# Altium footprint library PCB.PcbLib: 41 footprints (part 2 of 3)
Each footprint in its own frame and in the unit in brackets; x right, y up, seen from the top. Pads: shape width x height; smd on the part's side, far side on the other; paste and mask are expansions set on the pad; w line width, h text height; cw(c..) or ccw(c..) is an arc to the next point about the centre after c.
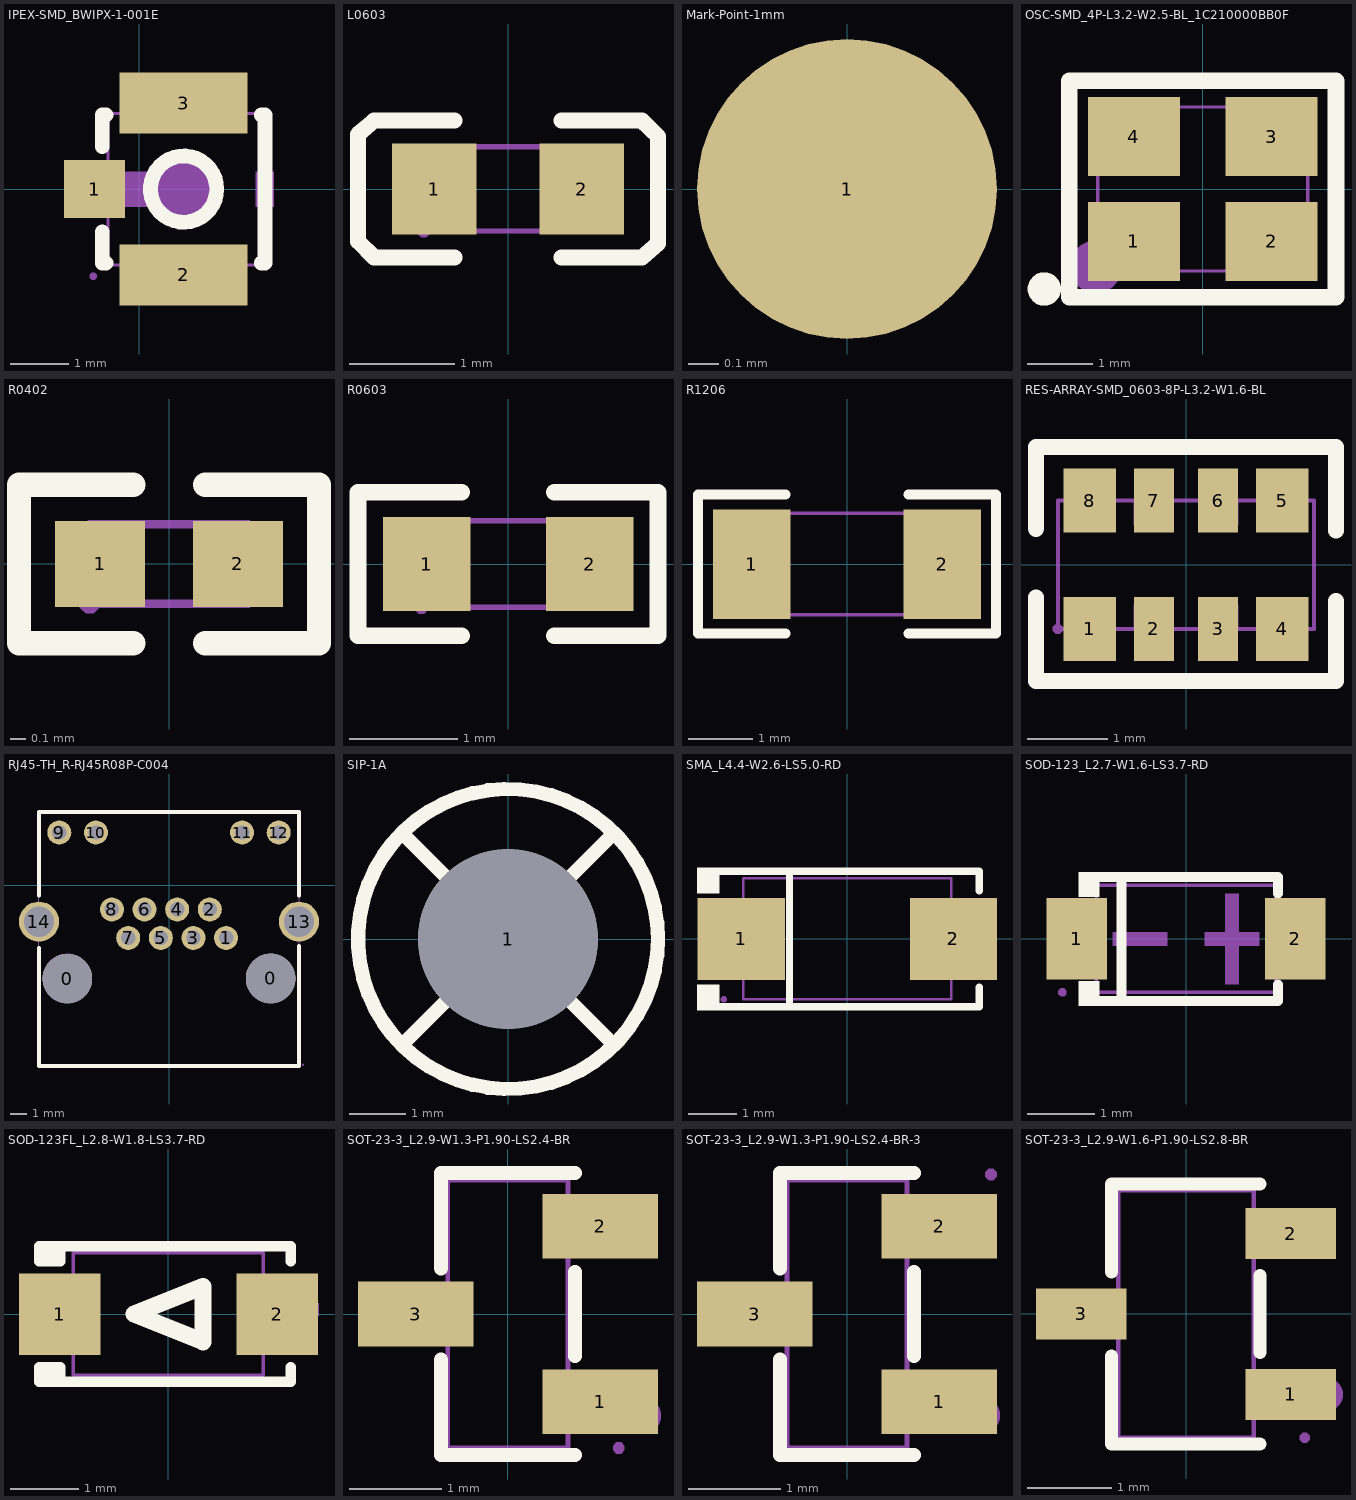
[diagram p1: the footprints below, top view; thin cyan lines are the x and y axes]

## IPEX-SMD_BWIPX-1-001E [mil]
pads (3):
  rect 41.3x39.4 smd: 1(-30.1,0)
  rect 86.6x41.3 smd: 2(30,-58) 3(30,58.1)
Top Overlay:
  circle w10: c30,0 r22.4
  lines w10: -25,-28.8 -25,-50 -22.4,-50 ; -25,28.8 -25,50 -22.4,50 ; 82.4,-50 85,-50 85,-28.8 85,28.8 85,50 82.4,50
Mechanical 6:
  circle w7.9: c-40,0 r3.9
  region: 50.9,0 50.9,-3.98 47.86,-11.33 42.23,-16.96 34.88,-20 30.9,-20 30.92,-20 28.61,-19.95 24.13,-18.81 20.03,-16.68 16.52,-13.68 15.16,-11.81 15.1,-11.8 -17.8,-11.8 -17.8,11.8 15.16,11.81 16.52,13.68 20.03,16.68 24.13,18.81 28.61,19.95 30.92,20 30.9,20 34.88,20 42.23,16.96 47.86,11.33 50.9,3.98 50.9,0
Mechanical 7:
  lines w2: -21.2,-51.2 81.2,-51.2 81.2,51.2 -21.2,51.2 -21.2,-51.2
Mechanical 8:
  region: -28.7,-59 -28.7,-59.99 -30.11,-61.4 -32.09,-61.4 -33.5,-59.99 -33.5,-59 -33.5,-58.01 -32.09,-56.6 -30.11,-56.6 -28.7,-58.01 -28.7,-59
Mechanical 9:
  region: 65.4,43.3 -5.5,43.3 -5.5,59.1 65.4,59.1
  region: 65.4,-59 -5.5,-59 -5.5,-43.3 65.4,-43.3
  region: -17.3,11.8 -17.3,-11.8 -31.1,-11.8 -31.1,11.8
Mechanical 10:
  region: 78.7,11.8 91,11.8 91,-11.8 78.7,-11.8
  region: 50.9,0 50.9,-3.98 47.86,-11.33 42.23,-16.96 34.88,-20 30.9,-20 30.92,-20 28.61,-19.95 24.13,-18.81 20.03,-16.68 16.52,-13.68 15.16,-11.81 15.1,-11.8 -17.8,-11.8 -17.8,11.8 15.16,11.81 16.52,13.68 20.03,16.68 24.13,18.81 28.61,19.95 30.92,20 30.9,20 34.88,20 42.23,16.96 47.86,11.33 50.9,3.98 50.9,0

## L0603 [mil]
pads (2):
  rect 31.5x34 smd paste-3937 mask+2: 1(-27.6,0) 2(27.5,0)
Top Overlay:
  lines w6: -50.1,-25.6 -20.1,-25.6 ; -50.1,25.6 -20.1,25.6 ; -50,-25.6 -56.1,-19.6 -56.1,20.4 -50,25.6 ; 20,-25.6 50,-25.6 56,-20.4 56,19.7 50,25.6 20,25.6
Top Paste:
  region: -10,5.6 -10,-5.2 -20.7,-16.8 -40.6,-16.8 -43.1,-14.3 -43.1,14.7 -40.6,17.2 -20.7,17.2
  region: 10.3,6.1 10.3,-4.8 21.1,-16.4 41,-16.4 43.5,-13.8 43.5,15.1 41,17.7 21.1,17.7
Mechanical 7:
  lines w2: -31.5,-15.7 31.4,-15.7 31.4,15.8 -31.5,15.8 -31.5,-15.7
Mechanical 8:
  region: -29.1,-15.7 -29.1,-16.69 -30.51,-18.1 -32.49,-18.1 -33.9,-16.69 -33.9,-15.7 -33.9,-14.71 -32.49,-13.3 -30.51,-13.3 -29.1,-14.71 -29.1,-15.7 -29.2,-15.7
Mechanical 9:
  region: 31.4,-15.7 19.6,-15.7 19.6,15.8 31.4,15.8
  region: -19.7,-15.7 -31.5,-15.7 -31.5,15.8 -19.7,15.8

## Mark-Point-1mm [mil]
pads (1):
  round 39.4 smd paste-1000 mask+19.7: 1(0,0)

## OSC-SMD_4P-L3.2-W2.5-BL_1C210000BB0F [mil]
pads (4):
  rect 55.1x47.2 smd paste+0 mask+2: 1(-41.3,-31.5) 2(41.3,-31.5) 3(41.3,31.5) 4(-41.3,31.5)
Top Overlay:
  circle w10: c-95,-60 r5
  lines w10: -80,-65 80,-65 80,65 -80,65 -80,-65
Mechanical 6:
  circle w15.7: c-64.1,-46.7 r7.9
Mechanical 7:
  lines w2: -63,-49.2 -63,49.2 63,49.2 63,-49.2 -63,-49.2
Mechanical 8:
  region: -60.6,-49.2 -60.6,-50.19 -62.01,-51.6 -63.99,-51.6 -65.4,-50.19 -65.4,-49.2 -65.4,-48.21 -63.99,-46.8 -62.01,-46.8 -60.6,-48.21 -60.6,-49.2
Mechanical 9:
  region: 23.6,45.2 59.1,45.2 59.1,17.7 23.6,17.7
  region: 23.6,-17.8 59.1,-17.8 59.1,-45.3 23.6,-45.3
  region: -59.1,-17.8 -23.6,-17.8 -23.6,-45.3 -59.1,-45.3
  region: -59.1,45.2 -23.6,45.2 -23.6,17.7 -59.1,17.7

## R0402 [mil]
pads (2):
  rect 22.3x21.3 smd paste-3937 mask+2: 1(-17.1,0) 2(17,0)
Top Overlay:
  lines w6: -8.9,-19.7 -37.2,-19.7 -37.2,19.6 -8.9,19.6 ; 8.9,-19.7 37.1,-19.7 37.1,19.6 8.9,19.6
Top Paste:
  region: -5.4,-9.1 -5.4,9 -6.9,10.6 -26.6,10.6 -28.2,9 -28.2,-9.1 -26.6,-10.7 -6.9,-10.7
  region: 5.3,-9.1 5.3,9 6.9,10.6 26.6,10.6 28.1,9 28.1,-9.1 26.6,-10.7 6.9,-10.7
Mechanical 7:
  lines w2: -19.7,-9.9 19.6,-9.9 19.6,9.8 -19.7,9.8 -19.7,-9.9
Mechanical 8:
  region: -17.3,-9.9 -17.3,-10.89 -18.71,-12.3 -20.69,-12.3 -22.1,-10.89 -22.1,-9.9 -22.1,-8.91 -20.69,-7.5 -18.71,-7.5 -17.3,-8.91 -17.3,-9.9 -17.4,-9.9
Mechanical 9:
  region: -9.8,9.8 -9.8,-9.9 -19.7,-9.9 -19.7,9.8
  region: 9.9,-9.9 9.9,9.8 19.7,9.8 19.7,-9.9

## R0603 [mil]
pads (2):
  rect 31.8x34 smd paste-3937 mask+2: 1(-29.6,0) 2(29.7,0)
Top Overlay:
  lines w6: -16.8,-26 -54.5,-26 -54.5,26 -16.8,26 ; 16.8,-26 54.5,-26 54.5,26 16.8,26
Top Paste:
  region: -47,-17.7 -15.5,-17.7 -13.6,-15.7 -13.6,-6.8 -28.1,-6.8 -28.1,6.2 -13.6,6.2 -13.6,15.8 -15.5,17.7 -47,17.7 -49,15.8 -49,-15.7
  region: 47.1,17.7 15.6,17.7 13.6,15.8 13.6,6.8 28.2,6.8 28.2,-6.2 13.6,-6.2 13.6,-15.7 15.6,-17.7 47.1,-17.7 49,-15.7 49,15.8
Mechanical 7:
  lines w2: -31.5,-15.7 31.5,-15.7 31.5,15.8 -31.5,15.8 -31.5,-15.7
Mechanical 8:
  region: -29.1,-15.7 -29.1,-16.69 -30.51,-18.1 -32.49,-18.1 -33.9,-16.69 -33.9,-15.7 -33.9,-14.71 -32.49,-13.3 -30.51,-13.3 -29.1,-14.71 -29.1,-15.7
Mechanical 9:
  region: 31.5,-15.7 31.5,15.8 19.7,15.8 19.7,-15.7
  region: -31.5,-15.7 -31.5,15.8 -19.7,15.8 -19.7,-15.7

## R1206 [mil]
pads (2):
  rect 47.5x67 smd paste-3937 mask+2: 1(-58.2,0) 2(58.2,0)
Top Overlay:
  lines w6: -37.5,-42.4 -91,-42.4 -91,42.5 -37.5,42.5 ; 37.4,-42.4 91,-42.4 91,42.5 37.4,42.5
Top Paste:
  region: -34.5,-29.5 -34.5,-15.3 -38.4,-11.3 -46.7,-11.3 -50.6,-7.4 -50.6,7.5 -46.7,11.4 -38.4,11.4 -34.5,15.4 -34.5,29.6 -38.4,33.5 -78.1,33.5 -82,29.6 -82,-29.5 -78.1,-33.4 -38.4,-33.4
  region: 34.4,-29.5 34.4,-15.3 38.4,-11.3 46.7,-11.3 50.6,-7.4 50.6,7.5 46.7,11.4 38.4,11.4 34.4,15.4 34.4,29.6 38.4,33.5 78,33.5 82,29.6 82,-29.5 78,-33.4 38.4,-33.4
Mechanical 7:
  lines w2: -61,-31 61,-31 61,31.1 -61,31.1 -61,-31
Mechanical 8:
  region: -58.6,-31 -58.6,-31.99 -60.01,-33.4 -61.99,-33.4 -63.4,-31.99 -63.4,-31 -63.4,-30.01 -61.99,-28.6 -60.01,-28.6 -58.6,-30.01 -58.6,-31 -58.7,-31
Mechanical 9:
  region: 61,-31 61,31.1 43.3,31.1 43.3,-31
  region: -61,-31 -61,31.1 -43.3,31.1 -43.3,-31

## RES-ARRAY-SMD_0603-8P-L3.2-W1.6-BL [mil]
pads (8):
  rect 25.6x31.5 smd paste+0 mask+2: 1(-47.3,-31.5) 4(47.2,-31.5) 5(47.2,31.5) 8(-47.3,31.5)
  rect 19.7x31.5 smd paste+0 mask+2: 2(-15.8,-31.5) 3(15.7,-31.5) 6(15.7,31.5) 7(-15.8,31.5)
Top Overlay:
  lines w7.9: -73.7,-16.1 -73.7,-57.1 73.6,-57.1 73.6,-17.7 ; -73.7,17.7 -73.7,57.9 73.6,57.9 73.6,16.9
Mechanical 7:
  lines w2: -63,-31.5 62.9,-31.5 62.9,31.5 -63,31.5 -63,-31.5
Mechanical 8:
  region: -60.6,-31.5 -60.6,-32.49 -62.01,-33.9 -63.99,-33.9 -65.4,-32.49 -65.4,-31.5 -65.4,-30.51 -63.99,-29.1 -62.01,-29.1 -60.6,-30.51 -60.6,-31.5 -60.7,-31.5
Mechanical 9:
  region: 37.3,19.7 37.3,31.5 57,31.5 57,19.7
  region: -25.6,19.7 -25.6,31.5 -6,31.5 -6,19.7
  region: 37.4,-31.5 37.4,-19.7 57,-19.7 57,-31.5
  region: 5.9,19.7 5.9,31.5 25.5,31.5 25.5,19.7
  region: 5.9,-31.5 5.9,-19.7 25.5,-19.7 25.5,-31.5
  region: -25.6,-31.5 -25.6,-19.7 -6,-19.7 -6,-31.5
  region: -57.1,19.7 -57.1,31.5 -37.4,31.5 -37.4,19.7
  region: -57.1,-31.5 -57.1,-19.7 -37.4,-19.7 -37.4,-31.5

## RJ45-TH_R-RJ45R08P-C004 [mil]
pads (16):
  round 122 hole 122 unplated paste-99999 mask+0: 0(-250,-230) 0(250,-229.69)
  round 59.1 hole 35.4 paste-99999 mask+2: 1(140.5,-129.7) 2(100.4,-59.6) 3(60.2,-129.7) 4(20.1,-59.6) 5(-20.1,-129.7) 6(-60.3,-59.6) 7(-100.4,-129.7) 8(-140.6,-59.6) 9(-270.1,129.7) 10(-179.9,129.7) 11(179.9,129.7) 12(270.1,129.7)
  round 98.4 hole 74.8 paste-99999 mask+2: 13(320.1,-89.6) 14(-320.1,-89.6)
Top Overlay:
  lines w10: -320.1,-25 -320.1,180 320.1,180 320.1,-25 ; -320,-155 -320,-445 320,-445 320,-150
Mechanical 6:
  circle w61: c250,-229.7 r30.5
  circle w61: c-250,-229.7 r30.5
Mechanical 7:
  lines w2: -320.1,-442.3 -320.1,177.8 320.1,177.8 320.1,-442.3 -320.1,-442.3
Mechanical 8:
  region: 332.3,-442.3 332.3,-443.29 330.89,-444.7 328.91,-444.7 327.5,-443.29 327.5,-442.3 327.5,-441.31 328.91,-439.9 330.89,-439.9 332.3,-441.31 332.3,-442.3
Mechanical 9:
  region: 127.9,-117.1 153.1,-117.1 153.1,-142.3 127.9,-142.3
  region: 87.8,-47 113,-47 113,-72.2 87.8,-72.2
  region: 47.6,-117.1 72.8,-117.1 72.8,-142.3 47.6,-142.3
  region: 7.5,-47 32.7,-47 32.7,-72.2 7.5,-72.2
  region: -32.7,-117.1 -7.5,-117.1 -7.5,-142.3 -32.7,-142.3
  region: -72.9,-47 -47.7,-47 -47.7,-72.2 -72.9,-72.2
  region: -113,-117.1 -87.8,-117.1 -87.8,-142.3 -113,-142.3
  region: -153.2,-47 -128,-47 -128,-72.2 -153.2,-72.2
  region: -282.7,142.3 -257.5,142.3 -257.5,117.1 -282.7,117.1
  region: -192.5,142.3 -167.3,142.3 -167.3,117.1 -192.5,117.1
  region: 167.3,142.3 192.5,142.3 192.5,117.1 167.3,117.1
  region: 257.5,142.3 282.7,142.3 282.7,117.1 257.5,117.1
  region: 310.2,-60 329.9,-60 329.9,-119.1 310.2,-119.1
  region: -329.9,-60 -310.3,-60 -310.3,-119.1 -329.9,-119.1

## SIP-1A [mil]
pads (1):
  round 126 hole 126 paste-99999 mask+4: 1(0,0)
Top Overlay:
  circle w10: c0,0 r105
  lines w10: -72.5,-72.5 72.5,72.5 ; -72.5,72.5 72.5,-72.5

## SMA_L4.4-W2.6-LS5.0-RD [mil]
pads (2):
  rect 70.9x66.9 smd: 1(-86.3,0) 2(86.3,0)
Top Overlay:
  region: -104.3,-58.2 -104.3,-37.4 -122.3,-37.4 -122.3,-58.2
  region: -104.3,58.1 -104.3,37.3 -122.3,37.3 -122.3,58.1
  lines w6: -107.3,-55.2 107.3,-55.2 107.3,-39.4 ; -107.3,55.2 107.3,55.2 107.3,39.3 ; -47.1,-55.2 -47.1,55.2
Mechanical 6:
  region: 84.8,-26.1 84.8,26.1 76.9,26.1 76.9,-26.1
  region: 96.5,-3.9 96.5,3.9 65.2,3.9 65.2,-3.9
  region: -96.5,-3.9 -96.5,3.9 -65.2,3.9 -65.2,-3.9
Mechanical 7:
  lines w2: -84.7,-49.2 84.6,-49.2 84.6,49.2 -84.7,49.2 -84.7,-49.2
Mechanical 8:
  region: -98,-49.2 -98,-50.19 -99.41,-51.6 -101.39,-51.6 -102.8,-50.19 -102.8,-49.2 -102.8,-48.21 -101.39,-46.8 -99.41,-46.8 -98,-48.21 -98,-49.2
Mechanical 9:
  region: 53.1,-28.6 53.1,28.5 100.4,28.5 100.4,-28.6
  region: -53.2,28.5 -53.2,-28.6 -100.4,-28.6 -100.4,28.5

## SOD-123_L2.7-W1.6-LS3.7-RD [mil]
pads (2):
  rect 35.8x48 smd: 1(-64.4,0) 2(64.3,0)
Top Overlay:
  region: -51.2,39.4 -51.2,24.9 -63.2,24.9 -63.2,39.4
  region: -51.2,-39.5 -51.2,-24.9 -63.2,-24.9 -63.2,-39.5
  lines w6: -54.2,-36.5 54.1,-36.5 54.1,-26.9 ; -54.2,36.4 54.1,36.4 54.1,26.9 ; -38.1,-36.5 -38.1,36.4
Mechanical 6:
  region: -43.2,4 -43.2,-4 -11.1,-4 -11.1,4
  region: 43.1,4 43.1,-4 11,-4 11,4
  region: 31.1,26.7 31.1,-26.8 23,-26.8 23,26.7
Mechanical 7:
  lines w2: -53,-31.5 -53,31.5 52.9,31.5 52.9,-31.5 -53,-31.5
Mechanical 8:
  region: -70.5,-31.5 -70.5,-32.49 -71.91,-33.9 -73.89,-33.9 -75.3,-32.49 -75.3,-31.5 -75.3,-30.51 -73.89,-29.1 -71.91,-29.1 -70.5,-30.51 -70.5,-31.5
Mechanical 9:
  region: -72.7,11.8 -62.8,11.8 -62.8,-11.8 -72.7,-11.8
  region: 62.8,11.8 72.6,11.8 72.6,-11.8 62.8,-11.8
Mechanical 10:
  region: 71.2,11.8 52.3,11.8 52.3,-11.8 71.2,-11.8
  region: -71.3,-11.8 -52.4,-11.8 -52.4,11.8 -71.3,11.8

## SOD-123FL_L2.8-W1.8-LS3.7-RD [mil]
pads (2):
  rect 47.2x47.2 smd: 1(-63,0) 2(63,0)
Top Overlay:
  lines w6: -70.5,-39.3 -70.5,-30.7 ; -70.5,30.7 -70.5,39.4 ; -66.5,-39.3 -66.5,-30.7 ; -66.5,30.7 -66.5,39.4 ; -62.6,-39.3 -62.6,-30.7 -74.8,-30.7 -74.8,-39.3 63,-39.3 70.9,-39.3 70.9,-30.7 ; -62.6,39.4 -62.6,30.7 -74.8,30.7 -74.8,39.4 55.1,39.4 ; 47.3,39.4 70.9,39.4 70.9,30.7
  lines w10: -20,0 20,16 20,-16 -20,0
Mechanical 6:
  region: -51.7,-3.7 -86.4,-3.7 -86.4,3.4 -51.7,3.4
  region: 87.3,-0.9 52.6,-0.9 52.6,6.2 87.3,6.2
  region: 65.2,-17.1 65.2,17.5 72.3,17.5 72.3,-17.1
Mechanical 7:
  lines w2: -55.1,-35.4 -55.1,35.5 55.1,35.5 55.1,-35.4 -55.1,-35.4
Mechanical 8:
  region: -70.4,-35.4 -70.4,-36.39 -71.81,-37.8 -73.79,-37.8 -75.2,-36.39 -75.2,-35.4 -75.2,-34.41 -73.79,-33 -71.81,-33 -70.4,-34.41 -70.4,-35.4
Mechanical 9:
  region: 41.4,18.7 72.9,18.7 72.9,-18.7 41.4,-18.7
  region: -72.8,18.7 -41.3,18.7 -41.3,-18.7 -72.8,-18.7

## SOT-23-3_L2.9-W1.3-P1.90-LS2.4-BR [mil]
pads (3):
  rect 49.2x27.6 smd: 1(39.4,-37.4) 2(39.4,37.4) 3(-39.3,0)
Top Overlay:
  lines w6: -28.6,-19.5 -28.6,-60.1 28.6,-60.1 ; -28.6,19.5 -28.6,60.1 28.6,60.1 ; 28.6,-17.9 28.6,17.9
Mechanical 6:
  circle w7.9: c57.5,-43.3 r3.9
Mechanical 7:
  lines w2: -25.6,-57.1 -25.6,57.1 25.6,57.1 25.6,-57.1 -25.6,-57.1
Mechanical 8:
  region: 49.7,-57.1 49.7,-58.09 48.29,-59.5 46.31,-59.5 44.9,-58.09 44.9,-57.1 44.9,-56.11 46.31,-54.7 48.29,-54.7 49.7,-56.11 49.7,-57.1 49.6,-57.1
Mechanical 9:
  region: 35.5,28.9 35.5,45.9 47.3,45.9 47.3,28.9
  region: 35.5,-45.9 35.5,-28.9 47.3,-28.9 47.3,-45.9
  region: -47.2,-8.5 -47.2,8.5 -35.4,8.5 -35.4,-8.5
Mechanical 10:
  region: 25.2,28.9 25.2,45.9 35.8,45.9 35.8,28.9
  region: 25.2,-45.9 25.2,-28.9 35.8,-28.9 35.8,-45.9
  region: -35.8,-8.5 -35.8,8.5 -25.2,8.5 -25.2,-8.5

## SOT-23-3_L2.9-W1.3-P1.90-LS2.4-BR-3 [mil]
pads (3):
  rect 49.2x27.6 smd: 1(39.4,-37.4) 2(39.4,37.4) 3(-39.4,0)
Top Overlay:
  lines w6: -28.6,-19.5 -28.6,-60.1 28.6,-60.1 ; -28.6,19.5 -28.6,60.1 28.6,60.1 ; 28.6,-17.9 28.6,17.9
Mechanical 6:
  circle w7.9: c57.5,-43.3 r3.9
Mechanical 7:
  lines w2: -25.6,-57.1 -25.6,57.1 25.6,57.1 25.6,-57.1 -25.6,-57.1
Mechanical 8:
  region: 63.8,59.5 63.8,58.51 62.39,57.1 60.41,57.1 59,58.51 59,59.5 59,60.49 60.41,61.9 62.39,61.9 63.8,60.49 63.8,59.5
Mechanical 9:
  region: 35.4,29 35.4,45.9 47.2,45.9 47.2,29
  region: 35.4,-45.8 35.4,-28.9 47.2,-28.9 47.2,-45.8
  region: -47.3,-8.4 -47.3,8.5 -35.5,8.5 -35.5,-8.4
Mechanical 10:
  region: 25.2,29 25.2,45.9 35.8,45.9 35.8,29
  region: 25.2,-45.8 25.2,-28.9 35.8,-28.9 35.8,-45.8
  region: -35.8,-8.4 -35.8,8.5 -25.2,8.5 -25.2,-8.4

## SOT-23-3_L2.9-W1.6-P1.90-LS2.8-BR [mil]
pads (3):
  rect 42.1x23.6 smd: 1(48.6,-37.4) 2(48.6,37.4) 3(-48.7,0)
Top Overlay:
  lines w6: -34.6,-19.5 -34.6,-60.5 34.4,-60.5 ; -34.6,19.5 -34.6,60.5 34.4,60.5 ; 34.4,-17.9 34.4,17.9
Mechanical 6:
  circle w7.9: c65,-37.4 r3.9
Mechanical 7:
  lines w2: -31.6,-57.5 -31.6,57.5 31.4,57.5 31.4,-57.5 -31.6,-57.5
Mechanical 8:
  region: 57.5,-57.5 57.5,-58.49 56.09,-59.9 54.11,-59.9 52.7,-58.49 52.7,-57.5 52.7,-56.51 54.11,-55.1 56.09,-55.1 57.5,-56.51 57.5,-57.5 57.4,-57.5
Mechanical 9:
  region: 37.3,-45.3 37.3,-29.5 55.1,-29.5 55.1,-45.3
  region: 37.3,29.5 37.3,45.3 55.1,45.3 55.1,29.5
  region: -37.5,-7.9 -37.5,7.9 -55.2,7.9 -55.2,-7.9
Mechanical 10:
  region: 31,-45.3 31,-29.5 37.7,-29.5 37.7,-45.3
  region: 31,29.5 31,45.3 37.7,45.3 37.7,29.5
  region: -37.8,-7.9 -37.8,7.9 -31.2,7.9 -31.2,-7.9